# EAGLE library part SHT3X (library Sensirion_SHT3x)
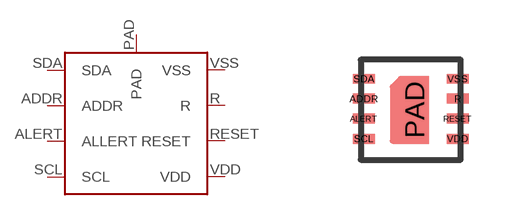
[diagram p0: symbol with the pads of SHT3X; footprint SHT3X]

Designator prefix -

## SHT3X  [SHT3X]
ADDR  ADDR
ALERT  ALLERT
PAD  PAD
R  R
RESET  RESET
SCL  SCL
SDA  SDA
VDD  VDD
VSS  VSS

## Footprint SHT3X (pad centres in mm)
smd 0.55 x 0.25: ADDR -1.225,0.2; ALERT -1.225,-0.3; R 1.125,0.2; RESET 1.125,-0.3; SCL -1.225,-0.8; SDA -1.225,0.7; VDD 1.125,-0.8; VSS 1.125,0.7
smd 0.7 x 1.7: PAD 0.05,-0.075